# Altium footprint library Footprint_SMT_Capacitors.PcbLib: 7 footprints
Each footprint in its own frame and in the unit in brackets; x right, y up, seen from the top. Pads: shape width x height; smd on the part's side, far side on the other; paste and mask are expansions set on the pad; w line width, h text height; cw(c..) or ccw(c..) is an arc to the next point about the centre after c.
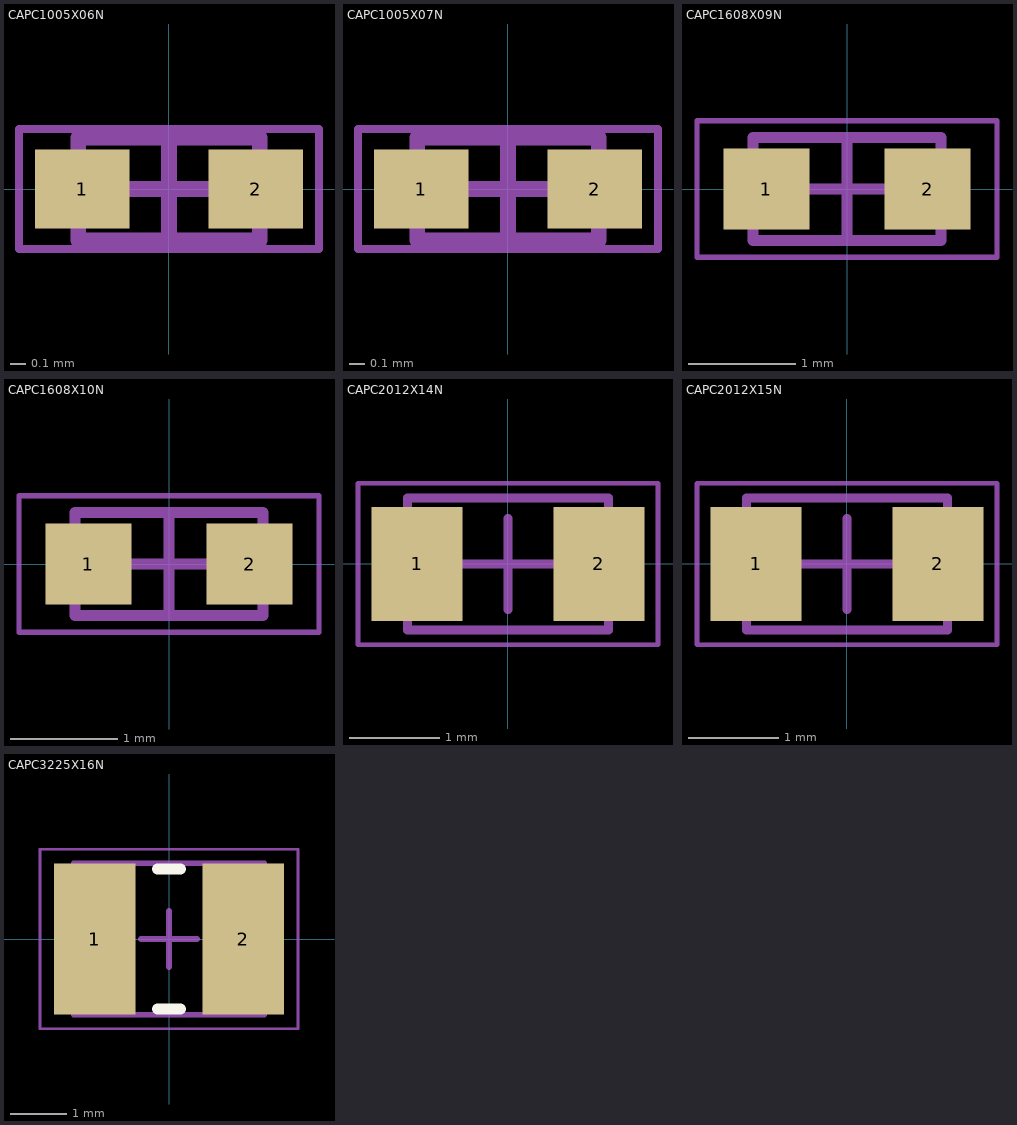
[diagram p0: the footprints below, top view; thin cyan lines are the x and y axes]

## CAPC1005X06N [mm] "0402 Chip Capacitor, 2-Leads, Body 1.00x0.50mm, IPC Medium Density"
height 0.56
pads (2):
  rect 0.6x0.5 smd: 1(-0.55,0) 2(0.55,0)
Mechanical 13:
  lines w0.1: -0.575,-0.325 0.575,-0.325 0.575,0.325 -0.575,0.325 -0.575,-0.325
Mechanical 15:
  lines w0.05: -0.95,-0.381 0.95,-0.381 0.95,0.381 -0.95,0.381 -0.95,-0.381
  lines w0.1: -0.325,0 0.325,0 ; 0,-0.325 0,0.325
3D body "CAPC1005X06N.step": height 0.6, standoff 0, extent -0.55,-0.275 0.55,0.275

## CAPC1005X07N [mm] "0402 Chip Capacitor, 2-Leads, Body 1.00x0.50mm, IPC Medium Density"
height 0.71
pads (2):
  rect 0.6x0.5 smd: 1(-0.55,0) 2(0.55,0)
Mechanical 13:
  lines w0.1: -0.575,-0.325 -0.575,0.325 0.575,0.325 0.575,-0.325 -0.575,-0.325
Mechanical 15:
  lines w0.05: -0.95,-0.381 -0.95,0.381 0.95,0.381 0.95,-0.381 -0.95,-0.381
  lines w0.1: -0.325,0 0.325,0 ; 0,-0.325 0,0.325
3D body "CAPC1005X07N.step": height 0.71, standoff 0, extent -0.575,-0.325 0.575,0.325

## CAPC1608X09N [mm] "0603 Chip Capacitor, 2-Leads, Body 1.60x0.81mm, IPC Medium Density"
height 0.94
pads (2):
  rect 0.8x0.75 smd: 1(-0.75,0) 2(0.75,0)
Mechanical 13:
  lines w0.1: -0.875,-0.48 -0.875,0.48 0.875,0.48 0.875,-0.48 -0.875,-0.48
Mechanical 15:
  lines w0.05: -1.397,-0.635 -1.397,0.635 1.397,0.635 1.397,-0.635 -1.397,-0.635
  lines w0.1: -0.48,0 0.48,0 ; 0,-0.48 0,0.48
3D body "CAPC1608X09N.step": height 0.94, standoff 0, extent -0.875,-0.48 0.875,0.48

## CAPC1608X10N [mm] "0603 Chip Capacitor, 2-Leads, Body 1.60x0.81mm, IPC Medium Density"
height 1.02
pads (2):
  rect 0.8x0.75 smd: 1(-0.75,0) 2(0.75,0)
Mechanical 13:
  lines w0.1: -0.875,-0.48 0.875,-0.48 0.875,0.48 -0.875,0.48 -0.875,-0.48
Mechanical 15:
  lines w0.05: -1.397,-0.635 1.397,-0.635 1.397,0.635 -1.397,0.635 -1.397,-0.635
  lines w0.1: -0.48,0 0.48,0 ; 0,-0.48 0,0.48
3D body "CAPC1608X10N.step": height 1.02, standoff 0, extent -0.875,-0.48 0.875,0.48

## CAPC2012X14N [mm] "0805 Chip Capacitor, 2-Leads, Body 2.01x1.25mm, IPC Medium Density"
height 1.4
pads (2):
  rect 1x1.25 smd: 1(-1,0) 2(1,0)
Mechanical 13:
  lines w0.1: -1.105,-0.725 1.105,-0.725 1.105,0.725 -1.105,0.725 -1.105,-0.725
Mechanical 15:
  lines w0.05: -1.651,-0.889 1.651,-0.889 1.651,0.889 -1.651,0.889 -1.651,-0.889
  lines w0.1: -0.5,0 0.5,0 ; 0,-0.5 0,0.5
3D body "CAPC2012X14N.step": height 1.4, standoff 0, extent -1.105,-0.725 1.105,0.725

## CAPC2012X15N [mm] "0805 Chip Capacitor, 2-Leads, Body 2.01x1.25mm, IPC Medium Density"
height 1.52
pads (2):
  rect 1x1.25 smd: 1(-1,0) 2(1,0)
Mechanical 13:
  lines w0.1: -1.105,-0.725 1.105,-0.725 1.105,0.725 -1.105,0.725 -1.105,-0.725
Mechanical 15:
  lines w0.05: -1.651,-0.889 1.651,-0.889 1.651,0.889 -1.651,0.889 -1.651,-0.889
  lines w0.1: -0.5,0 0.5,0 ; 0,-0.5 0,0.5
3D body "CAPC2012X15N.step": height 1.52, standoff 0, extent -1.105,-0.725 1.105,0.725

## CAPC3225X16N [mm] "1210, Chip Capacitor, 2-Leads, Body 3.20x2.50mm, IPC Medium Density"
height 1.55
pads (2):
  rect 1.45x2.7 smd: 1(-1.325,0) 2(1.325,0)
Top Overlay:
  lines w0.2: -0.2,-1.25 0.2,-1.25 ; -0.2,1.25 0.2,1.25
Mechanical 13:
  lines w0.1: -1.7,-1.35 -1.7,1.35 1.7,1.35 1.7,-1.35 -1.7,-1.35
Mechanical 15:
  lines w0.05: -2.3,-1.6 -2.3,1.6 2.3,1.6 2.3,-1.6 -2.3,-1.6
  lines w0.1: -0.5,0 0.5,0 ; 0,-0.5 0,0.5
3D body "CAPC3225X16N.step": height 1.55, standoff 0, extent -1.7,-1.35 1.7,1.35